# Altium schematic symbol library LSQNA201212T4R7M.SchLib: 1 symbol
Pins are listed as number, name and electrical type; pins without a type are passive.

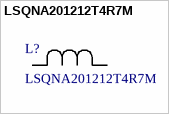
[diagram p0: symbol LSQNA201212T4R7M]

## LSQNA201212T4R7M
designator L?
4.7 µH Semiblindado Bobinado de alambre enrollado Inductivo 300 mA 520mOhm máx. 0805 (2012 métrico); Manufacturer_Name: Taiyo Yuden; Copyright: Copyright (C) 2025 Ultra Librarian. All rights reserved.; Manufacturer_Part_Number: LSQNA201212T4R7M
footprint IND_LSQN_A201212_TAY
pins: 1, 2